# Altium schematic symbol library AD7606.SchLib: 2 symbols
Pins are listed as number, name and electrical type; pins without a type are passive.

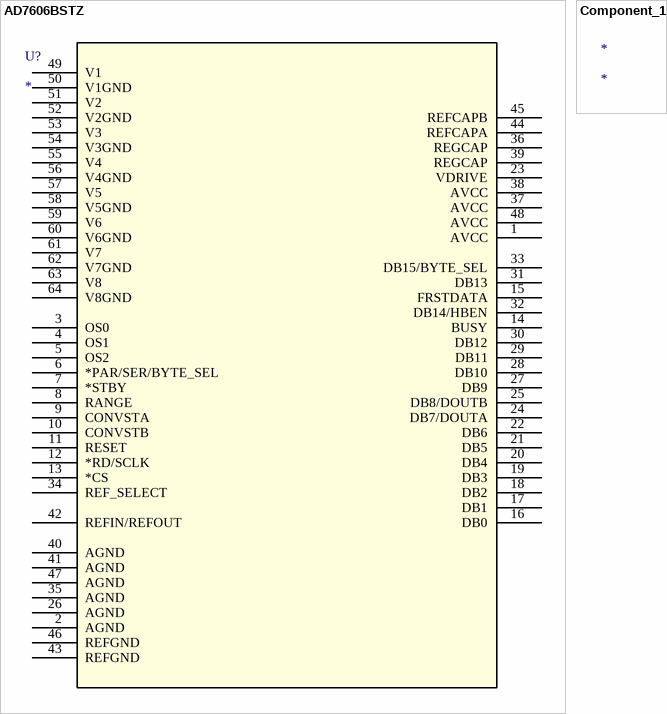
[diagram p0: symbols AD7606BSTZ to Component_1]

## AD7606BSTZ
designator U?
Imported; Value: Value; Type: Type; RefDes: RefDes
footprint ST_64_2
pins: 1 AVCC, 2 AGND, 3 OS0, 4 OS1, 5 OS2, 6 *PAR/SER/BYTE_SEL, 7 *STBY, 8 RANGE, 9 CONVSTA, 10 CONVSTB, 11 RESET, 12 *RD/SCLK, 13 *CS, 14 BUSY, 15 FRSTDATA, 16 DB0, 17 DB1, 18 DB2, 19 DB3, 20 DB4, 21 DB5, 22 DB6, 23 VDRIVE, 24 DB7/DOUTA, 25 DB8/DOUTB, 26 AGND, 27 DB9, 28 DB10, 29 DB11, 30 DB12, 31 DB13, 32 DB14/HBEN, 33 DB15/BYTE_SEL, 34 REF_SELECT, 35 AGND, 36 REGCAP, 37 AVCC, 38 AVCC, 39 REGCAP, 40 AGND, 41 AGND, 42 REFIN/REFOUT, 43 REFGND, 44 REFCAPA, 45 REFCAPB, 46 REFGND, 47 AGND, 48 AVCC, 49 V1, 50 V1GND, 51 V2, 52 V2GND, 53 V3, 54 V3GND, 55 V4, 56 V4GND, 57 V5, 58 V5GND, 59 V6, 60 V6GND, 61 V7, 62 V7GND, 63 V8, 64 V8GND

## Component_1
designator *